# Altium footprint library PCBs.pcblib: 37 footprints (part 3 of 3)
Each footprint in its own frame and in the unit in brackets; x right, y up, seen from the top. Pads: shape width x height; smd on the part's side, far side on the other; paste and mask are expansions set on the pad; w line width, h text height; cw(c..) or ccw(c..) is an arc to the next point about the centre after c.
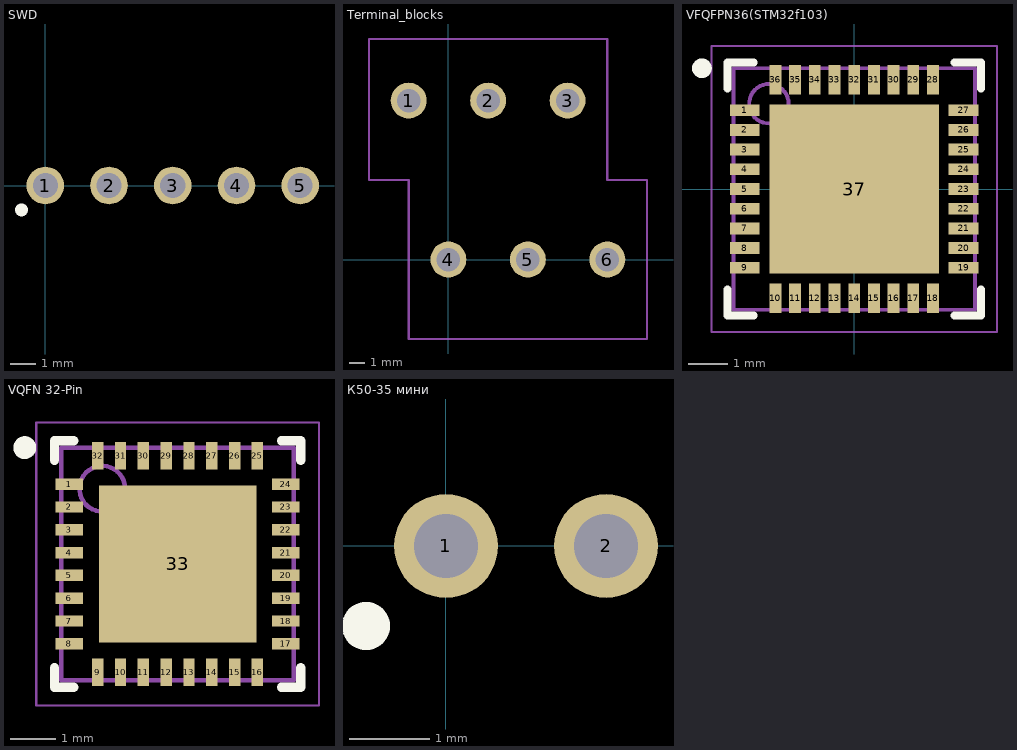
[diagram p2: the footprints below, top view; thin cyan lines are the x and y axes]

## SWD [mm]
pads (5):
  round 1.5 hole 1: 1(0,0) 2(2.54,0) 3(5.08,0) 4(7.62,0) 5(10.16,0)
Top Overlay:
  lines w0.5: -0.953,-0.959 cw(c-1,-0.975) -0.95,-0.975
3D body "User Library-Header_Male_4Pin.STEP": height 8.54, standoff -3, extent -1.27,-1.245 8.89,1.245

## Terminal_blocks [mm]
pads (6):
  round 2.3 hole 1.5: 1(-2.54,10.16) 2(2.54,10.16) 3(7.62,10.16) 4(0,0) 5(5.08,0) 6(10.16,0)
Mechanical 1:
  lines w0.15: -5.08,5.08 -5.08,9.497 -5.08,14.097 10.16,14.097 10.16,5.08 12.7,5.08 12.7,-5.08 -2.54,-5.08 -2.54,5.08 -5.08,5.08
3D body "Клемник.stp": height 20, standoff -3.5, extent -5.08,-4.301 13,14.097

## VFQFPN36(STM32f103) [mm]
height 1
pads (37):
  rect 0.75x0.3 smd: 1(-2.775,2) 2(-2.775,1.5) 3(-2.775,1) 4(-2.775,0.5) 5(-2.775,0) 6(-2.775,-0.5) 7(-2.775,-1) 8(-2.775,-1.5) 9(-2.775,-2) 19(2.775,-2) 20(2.775,-1.5) 21(2.775,-1) 22(2.775,-0.5) 23(2.775,0) 24(2.775,0.5) 25(2.775,1) 26(2.775,1.5) 27(2.775,2)
  rect 0.3x0.75 smd: 10(-2,-2.775) 11(-1.5,-2.775) 12(-1,-2.775) 13(-0.5,-2.775) 14(0,-2.775) 15(0.5,-2.775) 16(1,-2.775) 17(1.5,-2.775) 18(2,-2.775) 28(2,2.775) 29(1.5,2.775) 30(1,2.775) 31(0.5,2.775) 32(0,2.775) 33(-0.5,2.775) 34(-1,2.775) 35(-1.5,2.775) 36(-2,2.775)
  rect 4.3x4.3 smd: 37(0,0)
Top Overlay:
  circle w0.25: c-3.865,3.065 r0.125
  lines w0.2: -3.215,-2.55 -3.215,-3.215 -2.55,-3.215 ; -3.215,2.55 -3.215,3.215 -2.55,3.215 ; 2.55,-3.215 3.215,-3.215 3.215,-2.55 ; 2.55,3.215 3.215,3.215 3.215,2.55
Mechanical 13:
  circle w0.1: c-2.165,2.165 r0.5
  lines w0.1: -3.065,-3.065 3.065,-3.065 3.065,3.065 -3.065,3.065 -3.065,-3.065
Mechanical 15:
  lines w0.05: -3.625,-3.625 3.625,-3.625 3.625,3.625 -3.625,3.625 -3.625,-3.625
  lines w0.1: -0.5,0 0.5,0 ; 0,-0.5 0,0.5
3D body: height 1, standoff 0, extent -3.065,-3.065 3.065,3.065

## VQFN 32-Pin [mm] "QFN, 32-Leads, Body 5,00x5,00mm, Pitch 0,50mm, Thermal Pad 3,45x3,45mm, IPC Medium Density"
height 0.9
pads (33):
  rect 0.6x0.25 smd: 1(-7.125,6.5) 2(-7.125,6) 3(-7.125,5.5) 4(-7.125,5) 5(-7.125,4.5) 6(-7.125,4) 7(-7.125,3.5) 8(-7.125,3) 17(-2.375,3) 18(-2.375,3.5) 19(-2.375,4) 20(-2.375,4.5) 21(-2.375,5) 22(-2.375,5.5) 23(-2.375,6) 24(-2.375,6.5)
  rect 0.25x0.6 smd: 9(-6.5,2.375) 10(-6,2.375) 11(-5.5,2.375) 12(-5,2.375) 13(-4.5,2.375) 14(-4,2.375) 15(-3.5,2.375) 16(-3,2.375) 25(-3,7.125) 26(-3.5,7.125) 27(-4,7.125) 28(-4.5,7.125) 29(-5,7.125) 30(-5.5,7.125) 31(-6,7.125) 32(-6.5,7.125)
  rect 3.45x3.45 smd: 33(-4.75,4.75)
Top Overlay:
  circle w0.25: c-8.1,7.3 r0.125
  lines w0.2: -7.45,2.475 -7.45,2.05 -7.025,2.05 ; -7.45,7.025 -7.45,7.45 -7.025,7.45 ; -2.475,2.05 -2.05,2.05 -2.05,2.475 ; -2.475,7.45 -2.05,7.45 -2.05,7.025
Mechanical 13:
  circle w0.1: c-6.4,6.4 r0.5
  lines w0.1: -7.3,2.2 -7.3,7.3 -2.2,7.3 -2.2,2.2 -7.3,2.2
Mechanical 15:
  lines w0.05: -7.85,1.65 -7.85,7.85 -1.65,7.85 -1.65,1.65 -7.85,1.65
  lines w0.1: -5.25,4.75 -4.25,4.75
3D body: height 0.9, standoff 0, extent -7.3,2.2 -2.2,7.3

## К50-35 мини [mm]
height 7
pads (2):
  round 1.3 hole 0.8: 1(0,0) 2(2,0)
Top Overlay:
  circle w0.4: c-1,-1 r0.1
3D body "Конденсатор 10мкФ 50В.stp": height 8.5, standoff -10, extent -1.497,-2.5 3.497,2.5